# EAGLE library part LT3500 (library Regulator)
LT3500 - 2A Step-Down Regulator with LDO
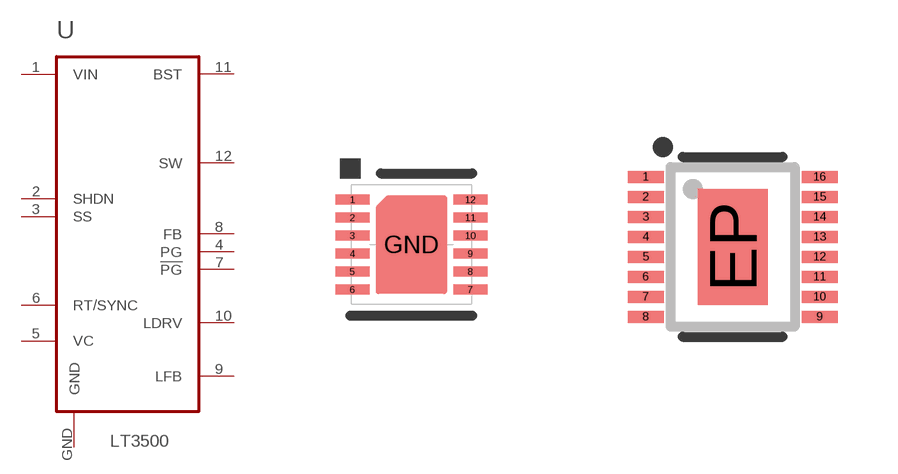
[diagram p0: symbol with the pads of DFN-12-EP; footprints DFN-12-EP, 16-MSOP-EP]

Designator prefix U

## LT3500EDD (PARTNO: 01-100444-00)  [DFN-12-EP]
1  VIN  pwr
2  SHDN  in
3  SS  in
4  PG  in
5  VC  in
6  RT/SYNC  in
7  !PG  in
8  FB  in
9  LFB  in
10  LDRV  in
11  BST  in
12  SW  in
GND  GND  in

## LT3500EMSE  [16-MSOP-EP]
2  VIN  pwr
3  SHDN  in
4  SS  in
5  PG  in
6  VC  in
7  RT/SYNC  in
10  !PG  in
11  FB  in
12  LFB  in
13  LDRV  in
14  BST  in
15  SW  in
EP  GND  in

## Footprint DFN-12-EP (pad centres in mm)
12-Lead Plastic DFN (3mm x 3mm)
smd 0.85 x 0.25: 1 -1.475,1.125; 2 -1.475,0.675; 3 -1.475,0.225; 4 -1.475,-0.225; 5 -1.475,-0.675; 6 -1.475,-1.125; 7 1.475,-1.125; 8 1.475,-0.675; 9 1.475,-0.225; 10 1.475,0.225; 11 1.475,0.675; 12 1.475,1.125
smd 1 x 1: GND 0,0

## Footprint 16-MSOP-EP (pad centres in mm)
16-MSOP w/ Exposed Pad
smd 0.9 x 0.3: 1 -2.175,1.75; 2 -2.175,1.25; 3 -2.175,0.75; 4 -2.175,0.25; 5 -2.175,-0.25; 6 -2.175,-0.75; 7 -2.175,-1.25; 8 -2.175,-1.75; 9 2.175,-1.75; 10 2.175,-1.25; 11 2.175,-0.75; 12 2.175,-0.25; 13 2.175,0.25; 14 2.175,0.75; 15 2.175,1.25; 16 2.175,1.75
smd 1.75 x 2.9: EP 0,0